# Altium footprint library ADAFRUIT_4328.PcbLib: 1 footprints
Each footprint in its own frame and in the unit in brackets; x right, y up, seen from the top. Pads: shape width x height; smd on the part's side, far side on the other; paste and mask are expansions set on the pad; w line width, h text height; cw(c..) or ccw(c..) is an arc to the next point about the centre after c.
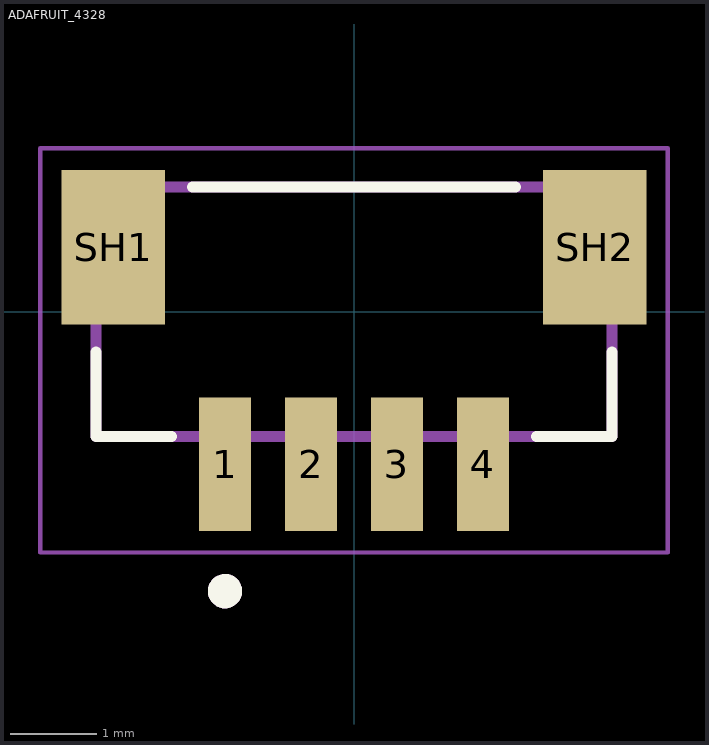
[diagram p0: the footprint, top view; thin cyan lines are the x and y axes]

## ADAFRUIT_4328 [mm]
height 4.25
pads (6):
  rect 0.6x1.55 smd: 1(-1.5,-1.775) 2(-0.5,-1.775) 3(0.5,-1.775) 4(1.5,-1.775)
  rect 1.2x1.8 smd: SH1(-2.8,0.75) SH2(2.8,0.75)
Top Overlay:
  circle w0.2: c-1.5,-3.25 r0.1
  lines w0.127: -3,-0.47 -3,-1.45 -2.12,-1.45 ; -1.88,1.45 1.88,1.45 ; 2.12,-1.45 3,-1.45 3,-0.47
Mechanical 13:
  circle w0.2: c-1.5,-3.25 r0.1
  lines w0.127: -3,-1.45 3,-1.45 3,1.45 -3,1.45 -3,-1.45
Mechanical 15:
  lines w0.05: -3.65,-2.8 -3.65,1.9 3.65,1.9 3.65,-2.8 -3.65,-2.8
3D body "step_temp.STEP": height 4.35, standoff 0, extent -3,-2.15 3,1.45